# EAGLE library part FM24CL64B-DGTR (library U-Cypress-FM24CLXXB-DGTR-I2C-FRAM-WFDM-8)
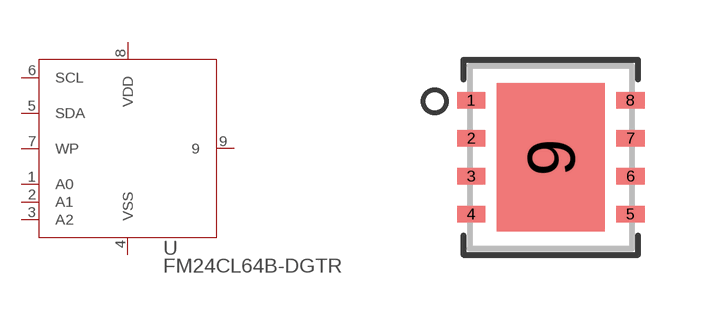
[diagram p0: symbol with the pads of TDFN-8; footprint TDFN-8]

Designator prefix U

## FM24CL64B-DGTR (BUILT_BY: EMA_UL_Team; MANUFACTURER_PART_NUMBER: FM24CL64B-DGTR; SOURCELIBRARY: Cypress_2014-07-30; VENDOR: Cypress Semiconductor)  [TDFN-8]
1  A0  in
2  A1  in
3  A2  in
4  VSS  pwr
5  SDA
6  SCL  in
7  WP  in
8  VDD  pwr
9  9  pas

## Footprint TDFN-8 (pad centres in mm)
smd 0.706 x 0.407: 1 -1.992,1.425; 2 -1.992,0.475; 3 -1.992,-0.475; 4 -1.992,-1.425; 5 1.992,-1.425; 6 1.992,-0.475; 7 1.992,0.475; 8 1.992,1.425
smd 2.692 x 3.708: 9 0,0